# Altium footprint library Fuse.PcbLib: 3 footprints
Each footprint in its own frame and in the unit in brackets; x right, y up, seen from the top. Pads: shape width x height; smd on the part's side, far side on the other; paste and mask are expansions set on the pad; w line width, h text height; cw(c..) or ccw(c..) is an arc to the next point about the centre after c.
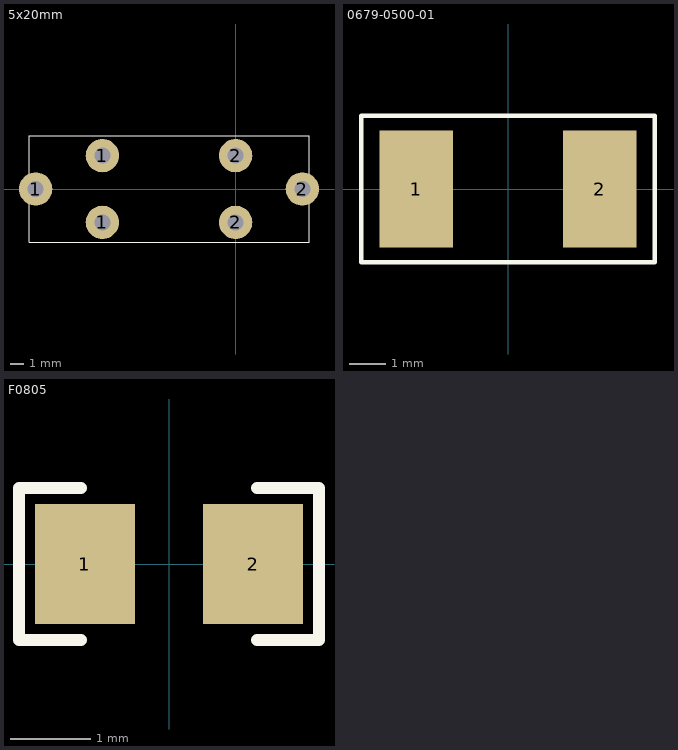
[diagram p0: the footprints below, top view; thin cyan lines are the x and y axes]

## 5x20mm [mm]
pads (6):
  round 2.5 hole 1.2: 1(-15,0) 1(-10,-2.5) 1(-10,2.5) 2(0,-2.5) 2(0,2.5) 2(5,0)
Top Overlay:
  lines w0: -15.5,-4 5.5,-4 5.5,4 -15.5,4 -15.5,-4
3D body: height 11, standoff -4, extent -5.2,-3.71 5.2,3.71
3D body: height 11, standoff -4, extent -15.2,-3.71 -4.8,3.71
3D body: height 10.6, standoff 5.4, extent -15,-2.6 5,2.6

## 0679-0500-01 [mm]
pads (2):
  rect 2x3.18 smd: 1(-2.5,0) 2(2.5,0)
Top Overlay:
  lines w0.125: -4,-2 4,-2 4,2 -4,2 -4,-2
3D body: height 2.69, standoff 0, extent -3.05,-1.3 3.05,1.39

## F0805 [mm] "Chip Resistor, Body 2.0x1.3mm, IPC Low Density"
height 0.7
pads (2):
  rect 1.25x1.5 smd: 1(-1.05,0) 2(1.05,0)
Top Overlay:
  lines w0.152: -1.1,-0.95 -1.875,-0.95 -1.875,0.95 -1.1,0.95 ; 1.1,-0.95 1.875,-0.95 1.875,0.95 1.1,0.95
3D body: height 0.7, standoff 0, extent 0.68,-0.675 1.1,0.675
3D body: height 0.7, standoff 0, extent -0.68,-0.675 0.68,0.675
3D body: height 0.7, standoff 0, extent -1.1,-0.675 -0.68,0.675